# EAGLE library part MLW10 (library #PaJa_konektory)
Konektory MLW - vidlice - 10x
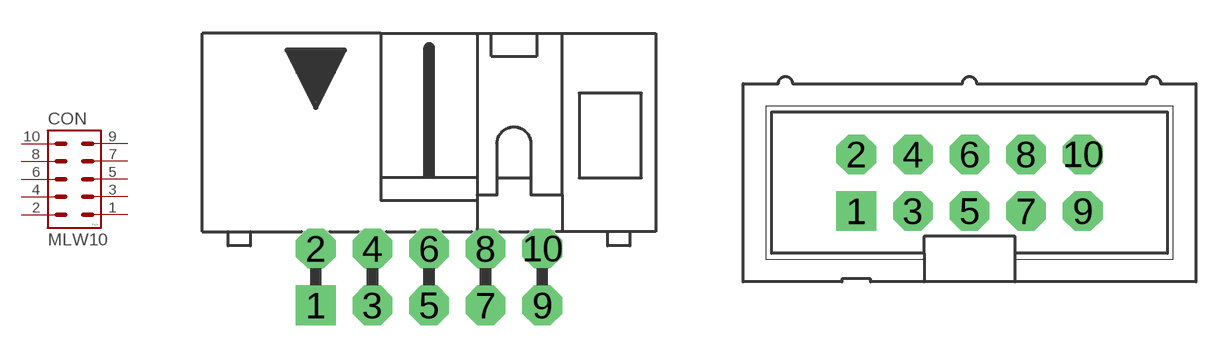
[diagram p5: symbol with the pads of MLW10A; footprints MLW10A, MLW10G]

Designator prefix CON

## MLW10_90°  [MLW10A]
1  1  pas
2  2  pas
3  3  pas
4  4  pas
5  5  pas
6  6  pas
7  7  pas
8  8  pas
9  9  pas
10  10  pas

## MLW10  [MLW10G]
Pads as for MLW10A

## Footprint MLW10A (pad centres in mm)
drill 0.914 pad 1.778 square: 1 -5.08,-1.27
drill 0.914 pad 1.778 octagon: 2 -5.08,1.27; 3 -2.54,-1.27; 4 -2.54,1.27; 5 0,-1.27; 6 0,1.27; 7 2.54,-1.27; 8 2.54,1.27; 9 5.08,-1.27; 10 5.08,1.27

## Footprint MLW10G (pad centres in mm)
drill 0.914 pad 1.778 square: 1 -5.08,-1.27
drill 0.914 pad 1.778 octagon: 2 -5.08,1.27; 3 -2.54,-1.27; 4 -2.54,1.27; 5 0,-1.27; 6 0,1.27; 7 2.54,-1.27; 8 2.54,1.27; 9 5.08,-1.27; 10 5.08,1.27